# Altium schematic symbol library PMIC.SchLib: 4 symbols
Pins are listed as number, name and electrical type; pins without a type are passive.

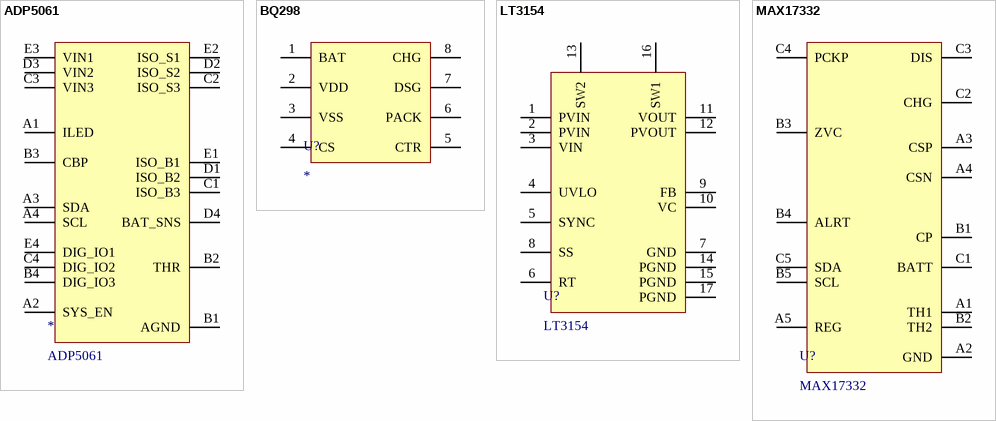
[diagram p0: symbols ADP5061 to MAX17332]

## ADP5061
designator *
Tiny, I2 / C Programmable, Linear Battery Charger / with Power Path and USB Mode Compatibility; Supplier 1: Mouser; Supplier Part Number 1: 584-ADP5061ACBZ-4-R7
pins: A1 ILED, A2 SYS_EN, A3 SDA, A4 SCL, B1 AGND, B2 THR, B3 CBP, B4 DIG_IO3, C1 ISO_B3, C2 ISO_S3, C3 VIN3, C4 DIG_IO2, D1 ISO_B2, D2 ISO_S2, D3 VIN2, D4 BAT_SNS, E1 ISO_B1, E2 ISO_S1, E3 VIN1, E4 DIG_IO1

## BQ298
designator U?
BQ298xyz Voltage, Current, Temperature Protectors with an Integrated High-Side / NFET Driver for Fast/Flash Charging Single-Cell Li-Ion and Li-Polymer Batteries
footprint thingio
pins: 1 BAT, 2 VDD, 3 VSS, 4 CS, 5 CTR, 6 PACK, 7 DSG, 8 CHG

## LT3154
designator U?
5.5V 6A Low-IQ Monolithic / Buck-Boost DC/DC Converter
footprint PQFN127P600-8N
pins: 1 PVIN, 2 PVIN, 3 VIN, 4 UVLO, 5 SYNC, 6 RT, 7 GND, 8 SS, 9 FB, 10 VC, 11 VOUT, 12 PVOUT, 13 SW2, 14 PGND, 15 PGND, 16 SW1, 17 PGND

## MAX17332
designator U?
AccuCharge + ModelGauge m5 EZ 1-Cell Charger, / Fuel Gauge, and Protector; Supplier 1: Digikey; Supplier Part Number 1: 505-MAX17332X22+TTR-ND
footprint BGA15C50P5X3_245X191X69 (BGA, 15-Leads, Body 2.45x1.91mmx0.69mm, Pitch 0.50mm)
pins: A1 TH1, A2 GND, A3 CSP, A4 CSN, A5 REG, B1 CP, B2 TH2, B3 ZVC, B4 ALRT, B5 SCL, C1 BATT, C2 CHG, C3 DIS, C4 PCKP, C5 SDA